# Altium schematic symbol library capacitor-smd.SchLib: 11 symbols
Pins are listed as number, name and electrical type; pins without a type are passive.

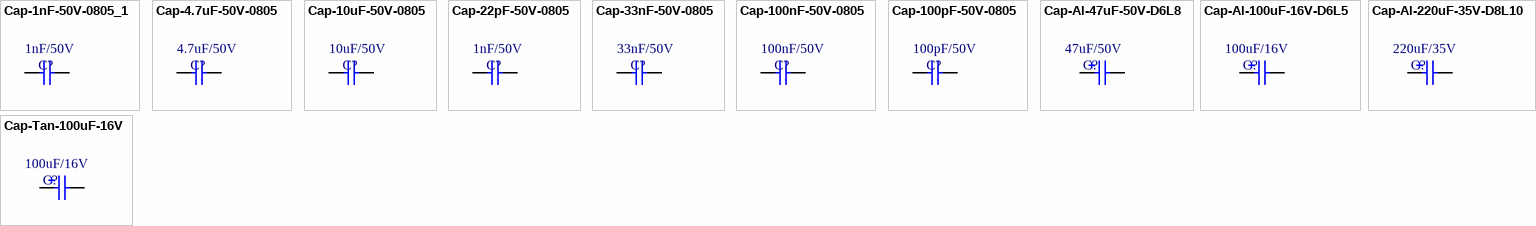
[diagram p0: symbols Cap-1nF-50V-0805_1 to Cap-Tan-100uF-16V]

## Cap-1nF-50V-0805_1
designator C?  value 1nF/50V
CAP CER 1000PF 100V X7R 0805; Manufacturer: Johanson Dielectrics Inc.; Manufacturer Part Number: 101X15W102MV4E; Local Supplier: thegioiic; Local Supplier Link: https://thegioiic.com/products/tu-1nf-50v-0805; Supplier 1: Digikey; Supplier 1 Link: https://www.digikey.com/product-detail/en/johanson-dielectrics-inc/101X15W102MV4E/709-1335-1-ND/2327235; Supplier 1 Part Number: 709-1335-1-ND
footprint CAP-SM-0805
pins: 1, 2

## Cap-4.7uF-50V-0805
designator C?  value 4.7uF/50V
CAP CER 4.7UF 50V X5R 0805; Manufacturer: Murata Electronics; Manufacturer Part Number: GRM21BR61H475KE51L; Local Supplier: thegioiic; Local Supplier Link: https://thegioiic.com/products/tu-4-7uf-50v-0805-cap; Supplier 1: Digikey; Supplier 1 Link: https://www.digikey.com/product-detail/en/murata-electronics/GRM21BR61H475KE51L/490-10751-1-ND/5251349; Supplier 1 Part Number: 490-10751-1-ND
footprint CAP-SM-0805
pins: 1, 2

## Cap-10uF-50V-0805
designator C?  value 10uF/50V
CAP CER 10UF 50V X5R 0805; Manufacturer: Yageo; Manufacturer Part Number: CC0805KKX5R9BB106; Local Supplier: thegioiic; Local Supplier Link: https://www.thegioiic.com/products/tu-gom-0805-10uf-50v; Supplier 1: Digikey; Supplier 1 Link: https://www.digikey.com/product-detail/en/yageo/CC0805KKX5R9BB106/311-3499-2-ND/7164383; Supplier 1 Part Number: 311-3499-2-ND
footprint CAP-SM-0805
pins: 1, 2

## Cap-22pF-50V-0805
designator C?  value 1nF/50V
CAP CER 22PF 100V X7R 0805; Manufacturer: Johanson Dielectrics Inc.; Manufacturer Part Number: 101X15W102MV4E; Local Supplier: thegioiic; Local Supplier Link: https://thegioiic.com/products/tu-1nf-50v-0805; Supplier 1: Digikey; Supplier 1 Link: https://www.digikey.com/product-detail/en/johanson-dielectrics-inc/101X15W102MV4E/709-1335-1-ND/2327235; Supplier 1 Part Number: 709-1335-1-ND
footprint CAP-SM-0805
pins: 1, 2

## Cap-33nF-50V-0805
designator C?  value 33nF/50V
CAP CER 0.033UF 50V X7R 0805; Manufacturer: Samsung Electro-Mechanics; Manufacturer Part Number: CL21B333KBANNNC; Local Supplier: thegioiic; Local Supplier Link: https://thegioiic.com/products/tu-33nf-50v-0805; Supplier 1: Digikey; Supplier 1 Link: https://www.digikey.com/product-detail/en/samsung-electro-mechanics/CL21B333KBANNNC/1276-1796-1-ND/3889882; Supplier 1 Part Number: 1276-1796-1-ND
footprint CAP-SM-0805
pins: 1, 2

## Cap-100nF-50V-0805
designator C?  value 100nF/50V
CAP CER 0.1UF 50V Y5V 0805; Manufacturer: Samsung Electro-Mechanics; Manufacturer Part Number: CL21F104ZBCNNNC; Local Supplier: thegioiic; Local Supplier Link: https://www.thegioiic.com/products/tu-gom-0805-100nf-0-1uf-50v; Supplier 1: Digikey; Supplier 1 Part Number: 1276-1007-1-ND; Supplier 1 Link: https://www.digikey.com/product-detail/en/samsung-electro-mechanics/CL21F104ZBCNNNC/1276-1007-1-ND/3889093
footprint CAP-SM-0805
pins: 1, 2

## Cap-100pF-50V-0805
designator C?  value 100pF/50V
CAP CER 100PF 50V C0G/NP0 0805; Manufacturer: KEMET; Manufacturer Part Number: C0805C101J5GACTU; Local Supplier: thegioiic; Local Supplier Link: https://thegioiic.com/products/tu-100pf-50v-0805; Supplier 1: Digikey; Supplier 1 Part Number: 399-1122-1-ND; Supplier 1 Link: https://www.digikey.com/product-detail/en/kemet/C0805C101J5GACTU/399-1122-1-ND/411397
footprint CAP-SM-0805
pins: 1, 2

## Cap-Al-47uF-50V-D6L8
designator C?  value 47uF/50V
CAP ALUM POLY 47UF 20% 50V SMD; Manufacturer: KEMET; Manufacturer Part Number: A767KN476M1HLAE029; Local Supplier: thegioiic; Local Supplier Link: https://thegioiic.com/products/tu-nhom-smd-47uf-50v-d6l8; Supplier 1: Digikey; Supplier 1 Link: https://www.digikey.com/product-detail/en/kemet/A767KN476M1HLAE029/399-16576-1-ND/7933076; Supplier 1 Part Number: 399-16576-1-ND
footprint CAP-SM-AL-SIZE-D-D6L6 (WH6.6)
pins: 1, 2
1 alternate drawing of the same symbol

## Cap-Al-100uF-16V-D6L5
designator C?  value 100uF/16V
CAP ALUM 100UF 20% 16V SMD; Manufacturer: Nichicon; Manufacturer Part Number: UWX1C101MCL1GB; Local Supplier: thegioiic; Local Supplier Link: https://www.thegioiic.com/products/tu-nhom-smd-100uf-16v-6-3x5-4mm; Supplier 1: Digikey; Supplier 1 Part Number: 493-2105-1-ND; Supplier 1 Link: https://www.digikey.com/product-detail/en/nichicon/UWX1C101MCL1GB/493-2105-1-ND/590080
footprint CAP-SM-AL-SIZE-D-D6L6 (WH6.6)
pins: 1, 2
1 alternate drawing of the same symbol

## Cap-Al-220uF-35V-D8L10
designator C?  value 220uF/35V
CAP ALUM 220UF 20% 35V SMD; Manufacturer: Nichicon; Manufacturer Part Number: UWT1V221MNL1GS; Local Supplier: thegioiic; Local Supplier Link: https://thegioiic.com/products/tu-nhom-smd-220uf-35v-d8l10; Supplier 1: Digikey; Supplier 1 Link: https://www.digikey.com/product-detail/en/nichicon/UWT1V221MNL1GS/493-2205-2-ND/589946; Supplier 1 Part Number: 493-2205-2-ND
footprint CAP-SM-AL-SIZE-F-D8L10 (WH8.3)
pins: 1, 2
1 alternate drawing of the same symbol

## Cap-Tan-100uF-16V
designator C?, comment value 100uF/16V  (hidden comment: TAJB107M006RNJ)
Manufacturer: Nichicon; Manufacturer Part Number: UWX1C101MCL1GB; Local Supplier: thegioiic; Local Supplier Link: https://www.thegioiic.com/products/tu-tantalum-100uf-16v-2312-tajc107k016rnj; Supplier 1: Digikey; Supplier 1 Part Number: 493-2105-1-ND; Supplier 1 Link: https://www.digikey.com/product-detail/en/nichicon/UWX1C101MCL1GB/493-2105-1-ND/590080
footprint CAP_SM_TAN
pins: 1, 2
1 alternate drawing of the same symbol